# Altium footprint library 533980371.PcbLib: 1 footprints
Each footprint in its own frame and in the unit in brackets; x right, y up, seen from the top. Pads: shape width x height; smd on the part's side, far side on the other; paste and mask are expansions set on the pad; w line width, h text height; cw(c..) or ccw(c..) is an arc to the next point about the centre after c.
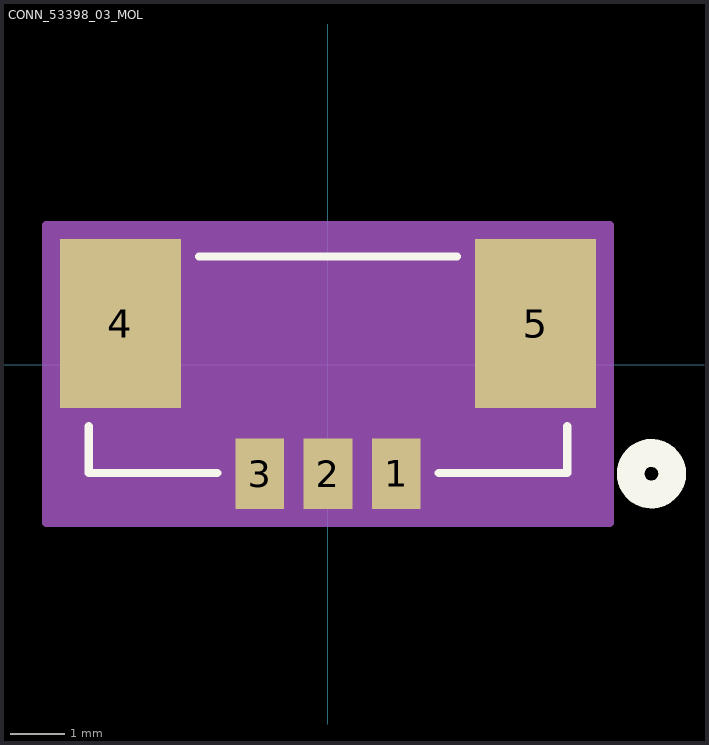
[diagram p0: the footprint, top view; thin cyan lines are the x and y axes]

## CONN_53398_03_MOL [mil]
pads (5):
  rect 35x51 smd paste+0 mask+0: 1(49.21,-78.57) 2(0,-78.57) 3(-49.21,-78.57)
  rect 87x122 smd paste+0 mask+0: 4(-149.61,29.69) 5(149.61,29.69)
Top Overlay:
  circle w20: c233.11,-78.57 r15
  lines w6: -172.5,-44.41 -172.5,-78 -79.81,-78 ; -93.01,78 93.01,78 ; 79.81,-78 172.5,-78 172.5,-44.41
Bottom Overlay:
  circle w20: c233.11,-78.57 r15
Mechanical 13:
  circle w20: c49.21,-78.57 r15
  lines w1: -167.5,-73 -167.5,73 167.5,73 167.5,-73 -167.5,-73
Mechanical 15:
  region: 203.11,100.69 -203.11,100.69 -203.11,-114.07 203.11,-114.07
  lines w6: -203.11,-114.07 203.11,-114.07 203.11,100.69 -203.11,100.69 -203.11,-114.07
3D body "0533980371.stp": height 185.04, standoff 0, extent -175.2,-80.35 175.2,85